# Altium integrated library TE BNC RIGHT ANGLE.IntLib: 1 symbol
Pins are listed as number, name and electrical type; pins without a type are passive.

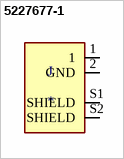
[diagram p0: symbol 5227677-1]

## 5227677-1
designator J
BNC Connector Jack, Female Socket 50Ohm Panel Mount, Through Hole, Right Angle Solder; MP: 5227677-1; Number_of_Positions: 1; MF: TE Connectivity; Package: None; TE_purchase_URL: https://www.te.com/usa-en/product-5227677-1.html?te_bu=Cor&te_type=disp&te_campaign=seda_glo_cor-seda-global-disp-prtnr-fy19-seda-model-bom-cta_sma-317_1&elqCampaignId=32493; Value: *; SnapEDA_Link: https://www.snapeda.com/parts/5227677-1/TE%20Connectivity%20AMP%20Connectors/view-part/1319114/?ref=snap; Digi-Key_Purchase_URL: https://www.digikey.com/product-detail/en/te-connectivity-amp-connectors/5227677-1/A32268-ND/811166?utm_source=snapeda&utm_medium=aggregator&utm_campaign=symbol; EU_RoHS_Compliance: Compliant with Exemptions; Digi-Key_Part_Number: A32268-ND
footprint TE_5227677-1
pins: 1, 2 GND (power), S1 SHIELD, S2 SHIELD